# Altium footprint library SHF-TH-2x5.PcbLib: 1 footprints
Each footprint in its own frame and in the unit in brackets; x right, y up, seen from the top. Pads: shape width x height; smd on the part's side, far side on the other; paste and mask are expansions set on the pad; w line width, h text height; cw(c..) or ccw(c..) is an arc to the next point about the centre after c.
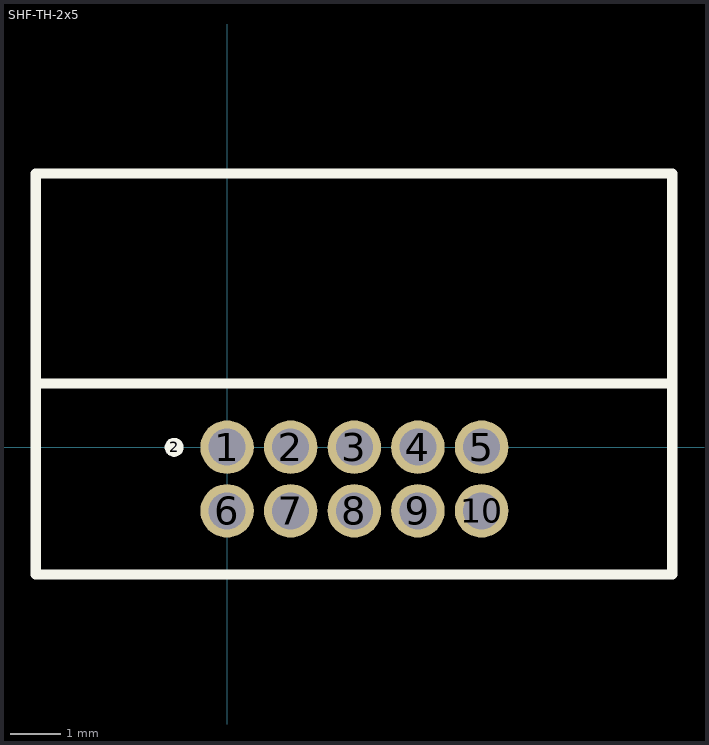
[diagram p0: the footprint, top view; thin cyan lines are the x and y axes]

## SHF-TH-2x5 [mil]
pads (11):
  round 42 hole 29: 1(0,0) 2(50,0) 3(100,0) 4(150,0) 5(200,0) 6(0,-50) 7(50,-50) 8(100,-50) 9(150,-50) 10(200,-50)
  round 15 on Top Overlay: 2(-41.55,-0.15)
TopOverlay:
  lines w8: -150.24,49.99 99.77,49.99 349.76,49.99 ; -150.24,49.99 -150.24,215 99.77,215 349.76,215 349.76,49.99 ; -150.24,49.99 -150.24,-100 99.77,-100 349.76,-100 349.76,49.99